# Altium footprint library ACTP112.PcbLib: 1 footprints
Each footprint in its own frame and in the unit in brackets; x right, y up, seen from the top. Pads: shape width x height; smd on the part's side, far side on the other; paste and mask are expansions set on the pad; w line width, h text height; cw(c..) or ccw(c..) is an arc to the next point about the centre after c.
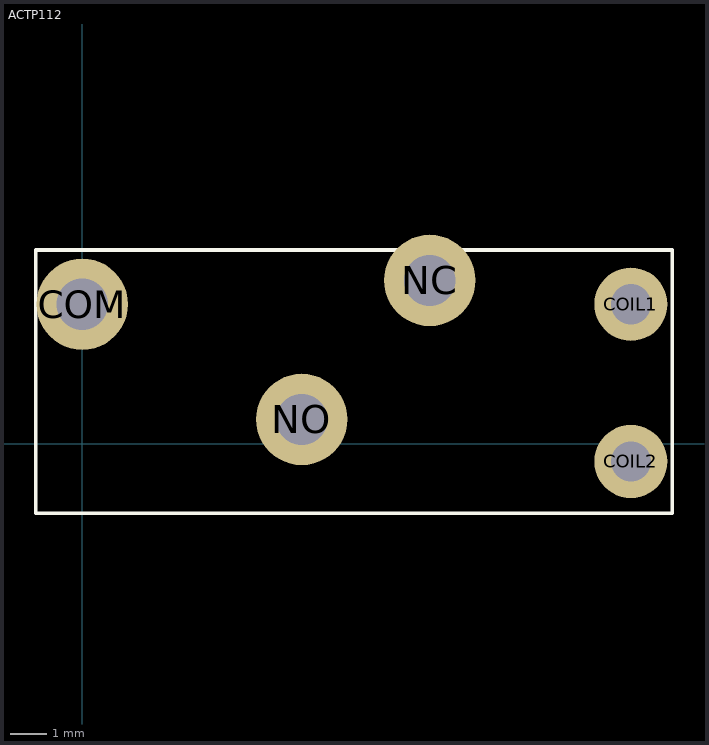
[diagram p0: the footprint, top view; thin cyan lines are the x and y axes]

## ACTP112 [mm] "ACTP112, 12V Relay"
height 13.5
pads (5):
  round 2 hole 1.1: COIL1(15,3.81) COIL2(15,-0.49)
  round 2.5 hole 1.4: COM(0,3.81) NC(9.5,4.46) NO(6,0.66)
Top Overlay:
  lines w0.1: -1.271,-1.905 16.129,-1.905 16.129,5.295 -1.271,5.295 -1.271,-1.905
3D body: height 13.5, standoff 0, extent -1.27,-1.905 16.129,5.334
3D body: height 0, standoff -3.5, extent 5.461,0.381 6.604,0.889
3D body: height 0, standoff -3.5, extent -0.539,3.531 0.604,4.039
3D body: height 0, standoff -3.5, extent 8.961,4.181 10.104,4.689
3D body: height 0, standoff -3.5, extent 14.461,3.531 15.604,4.039
3D body: height 0, standoff -3.5, extent 14.461,-0.769 15.604,-0.261